# EAGLE library part AMIS-49200-XTD (library Driver_Transceiver ICs)
IC TRANSCEIVER HALF 1/1 44LQFP Manufacturer's datasheet <https://www.onsemi.com/pub/Collateral/AMIS-492X0-D.PDF>
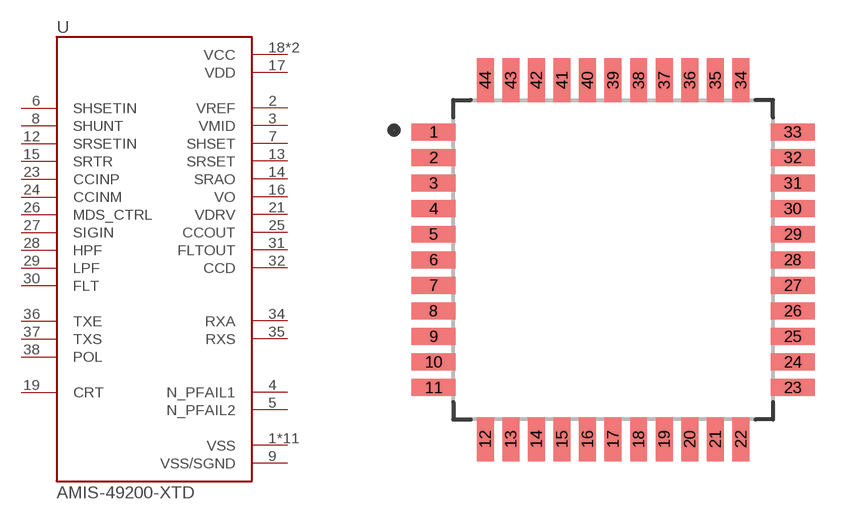
[diagram p11: symbol with the pads of LQFP44; footprint LQFP44]

Designator prefix U

## AMIS-49200-XTD (CREATED_BY: PCBLayout.com; DIGIKEY_PARTNO: 766-1019-ND; MANUFACTURER: ON Semiconductor; MPN: AMIS-49200-XTD; PACKAGE: LQFP-44)  [LQFP44]
1  VSS  pwr
2  VREF  out
3  VMID  out
4  N_PFAIL1
5  N_PFAIL2
6  SHSETIN  in
7  SHSET  out
8  SHUNT  in
9  VSS/SGND  pwr
10  VSS  pwr
11  VSS  pwr
12  SRSETIN  in
13  SRSET  out
14  SRAO  out
15  SRTR  in
16  VO  out
17  VDD  pwr
18  VCC  pwr
19  CRT
20  VSS  pwr
21  VDRV  out
22  VSS  pwr
23  CCINP  in
24  CCINM  in
25  CCOUT  out
26  MDS_CTRL  in
27  SIGIN  in
28  HPF  in
29  LPF  in
30  FLT  in
31  FLTOUT  out
32  CCD  out
33  VSS  pwr
34  RXA  out
35  RXS  out
36  TXE  in
37  TXS  in
38  POL  in
39  VSS  pwr
40  VSS  pwr
41  VSS  pwr
42  VSS  pwr
43  VSS  pwr
44  VCC  pwr

## Footprint LQFP44 (pad centres in mm)
Quad Flat Pack (QFP), 0.80 mm pitch; square, 11 pin X 11 pin, 10.00 mm L X 10.00 mm W X 1.60 mm H body PCB Libraries Packages
smd 1.37 x 0.53: 1 -5.62,4; 2 -5.62,3.2; 3 -5.62,2.4; 4 -5.62,1.6; 5 -5.62,0.8; 6 -5.62,0; 7 -5.62,-0.8; 8 -5.62,-1.6; 9 -5.62,-2.4; 10 -5.62,-3.2; 11 -5.62,-4; 23 5.62,-4; 24 5.62,-3.2; 25 5.62,-2.4; 26 5.62,-1.6; 27 5.62,-0.8; 28 5.62,0; 29 5.62,0.8; 30 5.62,1.6; 31 5.62,2.4; 32 5.62,3.2; 33 5.62,4
smd 0.53 x 1.37: 12 -4,-5.62; 13 -3.2,-5.62; 14 -2.4,-5.62; 15 -1.6,-5.62; 16 -0.8,-5.62; 17 0,-5.62; 18 0.8,-5.62; 19 1.6,-5.62; 20 2.4,-5.62; 21 3.2,-5.62; 22 4,-5.62; 34 4,5.62; 35 3.2,5.62; 36 2.4,5.62; 37 1.6,5.62; 38 0.8,5.62; 39 0,5.62; 40 -0.8,5.62; 41 -1.6,5.62; 42 -2.4,5.62; 43 -3.2,5.62; 44 -4,5.62